# Altium schematic symbol library OOLITEV8.SchLib: 78 symbols
Pins are listed as number, name and electrical type; pins without a type are passive.

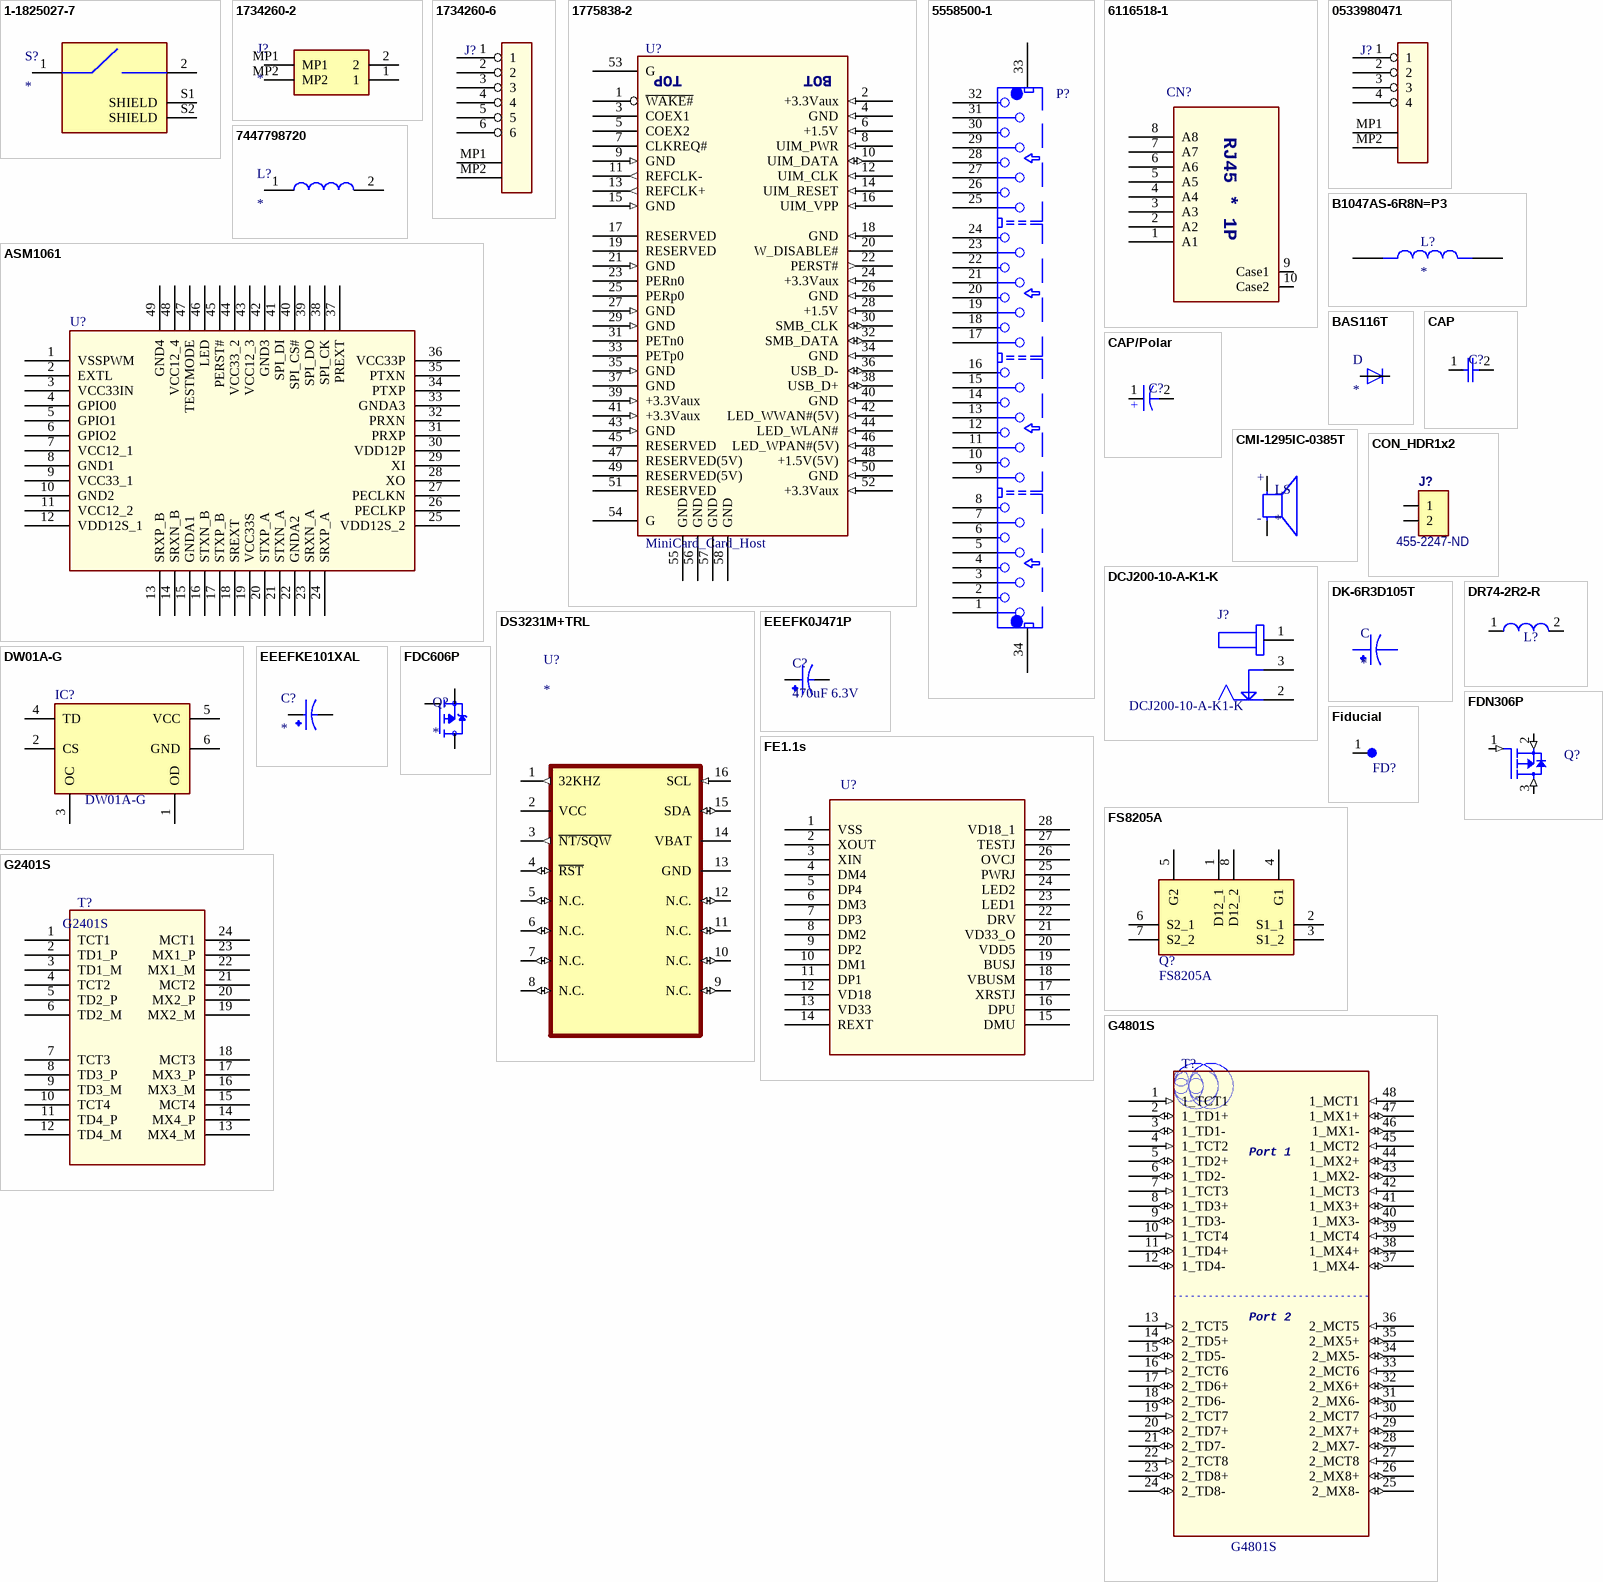
[diagram p0: symbols 1-1825027-7 to G4801S]

## 1-1825027-7
designator S?
Switch; Manufacturer_Name: TE Connectivity; Manufacturer_Part_Number: 1-1825027-7; Datasheet Link: https://www.te.com/commerce/DocumentDelivery/DDEController?Action=srchrtrv&DocNm=1308111-1_SWITCHES_CORE_PROGRAM_CATALOG&DocType=CS&DocLang=English; Height: 7.01mm; Mouser Part Number: 655-1-1825027-7; Mouser Price/Stock: https://www.mouser.co.uk/ProductDetail/TE-Connectivity-PB/1-1825027-7?qs=f77SmbfBTEqvrOH32rsDWQ%3D%3D; Arrow Part Number: 1-1825027-7; Arrow Price/Stock: https://www.arrow.com/en/products/1-1825027-7/te-connectivity
footprint 118250277
pins: 1 COM, 2 NO, S1 SHIELD, S2 SHIELD

## 1734260-2
designator J?
Connector; Manufacturer_Name: TE Connectivity; Manufacturer_Part_Number: 1734260-2; Datasheet Link: https://www.arrow.com/en/products/1734260-2/te-connectivity; Height: 4.95mm; Mouser Part Number: 571-1734260-2; Mouser Price/Stock: https://www.mouser.co.uk/ProductDetail/TE-Connectivity/1734260-2/?qs=Li%2F9gWHD5N4djG6lvxuXsg%3D%3D; Arrow Part Number: 1734260-2; Arrow Price/Stock: https://www.arrow.com/en/products/1734260-2/te-connectivity
footprint 17342602
pins: 1, 2, MP1, MP2

## 1734260-6
designator J?
HPI Series 6 Position 1.25 mm Single Row Male Pin Board to Wire Header; Manufacturer: TE Connectivity; Manufacturer Part Number: 1734260-6; Supplier 1: Arrow Electronics; RoHS: Yes; Category: Connectors; Stock 1: 4000; Pricing 1: 1000=2.17220, 2000=2.00570, 5000=1.90830 (USD); ComponentLink1URL: https://datasheet.ciiva.com/727/eng-cd-1734260-a-727326.pdf?src-supplier=Digi-Key; ComponentLink1Description: https://datasheet.ciiva.com/727/eng-cd-1734260-a-727326.pdf?src-supplier=Digi-Key; ComponentLink2URL: https://datasheet.ciiva.com/727/eng-cd-1734260-a-727431.pdf?src-supplier=Digi-Key; ComponentLink2Description: https://datasheet.ciiva.com/727/eng-cd-1734260-a-727431.pdf?src-supplier=Digi-Key; ComponentLink3URL: https://datasheet.ciiva.com/727/eng-cd-1734260-a-727501.pdf?src-supplier=Digi-Key; ComponentLink3Description: https://datasheet.ciiva.com/727/eng-cd-1734260-a-727501.pdf?src-supplier=Digi-Key; Supplier Part Number 1: 1734260-6
footprint 1734260-6
pins: 1, 2, 3, 4, 5, 6, MP1, MP2

## 1775838-2
designator U?, comment MiniCard_Card_Host
footprint TE_1775838-2
pins: 1 ~{WAKE#} (oc), 2 +3.3Vaux (in), 3 COEX1, 4 GND (in), 5 COEX2, 6 +1.5V (in), 7 CLKREQ# (oc), 8 UIM_PWR (in), 9 GND (in), 10 UIM_DATA (io), 11 REFCLK- (out), 12 UIM_CLK (in), 13 REFCLK+ (out), 14 UIM_RESET (in), 15 GND (in), 16 UIM_VPP (in), 17 RESERVED, 18 GND (in), 19 RESERVED, 20 W_DISABLE#, 21 GND (in), 22 PERST# (out), 23 PERn0, 24 +3.3Vaux (in), 25 PERp0, 26 GND (in), 27 GND (in), 28 +1.5V (in), 29 GND (in), 30 SMB_CLK (io), 31 PETn0, 32 SMB_DATA (io), 33 PETp0, 34 GND (in), 35 GND (in), 36 USB_D- (io), 37 GND (power), 38 USB_D+ (io), 39 +3.3Vaux (in), 40 GND (in), 41 +3.3Vaux (in), 42 LED_WWAN#(5V) (in), 43 GND (in), 44 LED_WLAN# (in), 45 RESERVED, 46 LED_WPAN#(5V) (in), 47 RESERVED(5V), 48 +1.5V(5V) (in), 49 RESERVED(5V), 50 GND (in), 51 RESERVED, 52 +3.3Vaux (in), 53 G, 54 G, 55 GND, 56 GND, 57 GND, 58 GND
text: TOP; BOT

## 5558500-1
designator P?
footprint CONN_ARJ14A-MESA-MU2
pins: 1, 2, 3, 4, 5, 6, 7, 8, 9, 10, 11, 12, 13, 14, 15, 16, 17, 18, 19, 20, 21, 22, 23, 24, 25, 26, 27, 28, 29, 30, 31, 32, 33, 34

## 6116518-1
designator CN?
footprint BEL_SS-6488-NF
pins: 1 A1, 2 A2, 3 A3, 4 A4, 5 A5, 6 A6, 7 A7, 8 A8, 9 Case1, 10 Case2
text: RJ45 * 1P

## 0533980471
designator J?
Conn Shrouded Header (3 Sides) HDR 4 POS 1.25mm Solder ST Top Entry SMD PicoBlade™ T/R; Manufacturer: Molex; Manufacturer Part Number: 53398-0471; Supplier 1: RSComponents; RoHS: Yes; Category: Headers and Wire Housings; Stock 1: 1535; Pricing 1: 5=1.26200, 100=1.10100, 375=0.94800, 1500=0.79200, 3000=0.63100 (USD); Supplier Part Number 1: 6563018
footprint 0533980471
pins: 1, 2, 3, 4, MP1, MP2

## 7447798720
designator L?
Fixed Ind 7.2UH 7.9A 12.8 Mohm; Manufacturer: Wurth Electronics; Manufacturer Part Number: 7447798720; Core Material: Metal,Composite; Saturation Current: 6A; Tolerance: 30%; Shielding: Shielded; Self Resonant Frequency: 31MHz; DC Resistance (DCR): 12.8mR; Test Frequency: 100kHz; Max DC Current: 6.5A; Supplier 1: Newark; RoHS: Yes; Category: Fixed Inductors; Stock 1: 203; Pricing 1: 1=3.34000, 10=3.09000, 25=3.05000, 50=3.02000, 100=2.98000, 250=2.65000 (USD); Mount: Surface Mount; Case/Package: Nonstandard; Min Operating Temperature: -40°C; Max Operating Temperature: 150°C; Package Quantity: 1; Current Rating: 7.9A; Packaging: Tape and Reel; Inductance Tolerance: 30%; Resistor Type: Wirewound; Inductance: 7.2uH; Termination: SMD/SMT; RMS Current (Irms): 7.9A; Series: WE-PDF; Length: 0.402inch; Width: 0.402inch; Height: 6.4mm; Height - Seated (Max): 0.252inch; REACH SVHC: Unknown; RoHS Compliant: Yes; ComponentLink1URL: https://datasheet.ciiva.com/7892/1736564-7892967.pdf?src-supplier=Element14; ComponentLink1Description: https://datasheet.ciiva.com/7892/1736564-7892967.pdf?src-supplier=Element14; ComponentLink2URL: https://datasheet.ciiva.com/6171/530544-6171082.pdf?src-supplier=Farnell; ComponentLink2Description: https://datasheet.ciiva.com/6171/530544-6171082.pdf?src-supplier=Farnell; ComponentLink3URL: https://datasheet.ciiva.com/4954/7447798720-38957-4954724.pdf?src-supplier=Mouser; ComponentLink3Description: https://datasheet.ciiva.com/4954/7447798720-38957-4954724.pdf?src-supplier=Mouser; ComponentLink4URL: https://datasheet.ciiva.com/1060/7447798720-1060960.pdf?src-supplier=Digi-Key; ComponentLink4Description: https://datasheet.ciiva.com/1060/7447798720-1060960.pdf?src-supplier=Digi-Key; ComponentLink5URL: https://datasheet.ciiva.com/1060/7447798720-1060961.pdf?src-supplier=Digi-Key; ComponentLink5Description: https://datasheet.ciiva.com/1060/7447798720-1060961.pdf?src-supplier=Digi-Key; ComponentLink6URL: https://datasheet.ciiva.com/1060/7447798720-1060962.pdf?src-supplier=Digi-Key; ComponentLink6Description: https://datasheet.ciiva.com/1060/7447798720-1060962.pdf?src-supplier=Digi-Key; Supplier Part Number 1: 78R5736
footprint CDRH103RNP6R8NCB
pins: 1, 2

## ASM1061
designator U?
footprint QFN-48
pins: 1 VSSPWM, 2 EXTL, 3 VCC33IN, 4 GPIO0, 5 GPIO1, 6 GPIO2, 7 VCC12_1, 8 GND1, 9 VCC33_1, 10 GND2, 11 VCC12_2, 12 VDD12S_1, 13 SRXP_B, 14 SRXN_B, 15 GNDA1, 16 STXN_B, 17 STXP_B, 18 SREXT, 19 VCC33S, 20 STXP_A, 21 STXN_A, 22 GNDA2, 23 SRXN_A, 24 SRXP_A, 25 VDD12S_2, 26 PECLKP, 27 PECLKN, 28 XO, 29 XI, 30 VDD12P, 31 PRXP, 32 PRXN, 33 GNDA3, 34 PTXP, 35 PTXN, 36 VCC33P, 37 PREXT, 38 SPI_CK, 39 SPI_DO, 40 SPI_CS#, 41 SPI_DI, 42 GND3, 43 VCC12_3, 44 VCC33_2, 45 PERST#, 46 LED, 47 TESTMODE, 48 VCC12_4, 49 GND4

## B1047AS-6R8N=P3
designator L?
Inductor Power Shielded Wirewound 220uH 20% 100KHz Ferrite 470mA 1.1Ohm DCR 2929 T/R; MP: B1047AS-6R8N=P3; Package: None; Price: None; Value: *; Availability: Unavailable
footprint IND_B1047AS-6R8N=P3
pins: 1, 2

## BAS116T
designator D
Diode Standard 75V 200mA Surface Mount SC-75, SOT-416; MP: BAS116; MF: NXP Semiconductors; Package: SOT-23-3 NXP Semiconductors; Availability: Bad; SnapEDA_Link: https://www.snapeda.com/parts/BAS116/NXP%20Semiconductors/view-part/188045/?ref=snap; Value: *; Price: None
footprint SOT416
pins: 1 A, 3 K

## CAP
designator C?
footprint 0603-C (Capacitor 0603 Nominal Density)
footprint 0805-C (Capacitor 0805 Nominal Density)
footprint 1206-C (Capacitor 1206 Nominal Density)
footprint 0402-C
footprint 1210-C
pins: 1, 2

## CAP/Polar
designator C?
footprint RADIAL-2
pins: 1, 2
text: +

## CMI-1295IC-0385T
designator LS
12 mm, 3 Vdc, 85 dB, Through Hole, Driving Circuit, Magnetic Audio Indicator Buzzer; MF: CUI Devices; MP: CMI-1295IC-0385T; Price: None; Value: *; Package: Package; Availability: Unavailable; SnapEDA_Link: https://www.snapeda.com/parts/CMI-1295IC-0385T/CUI%20Devices/view-part/4413411/?ref=snap
footprint CUI_CMI-1295IC-0385T
pins: N, P
text: +; -

## CON_HDR1x2
designator J?, comment 455-2247-ND
ComponentLink1URL: https://www.jst-mfg.com/product/pdf/eng/eXH.pdf; ComponentLink1Description: Datasheet
footprint CON_HDR1x2 (Connector 2-Way 2.50mm Pitch Right Angle Shrouded JST S2B-XH-A)
pins: 1, 2

## DCJ200-10-A-K1-K
designator J?
Power Barrel Connector Jack 2.05mm ID (0.081"), 5.50mm OD (0.217") Through Hole, Right Angle; MF: Global Connector Technology; Package: None; Availability: Unavailable; MP: DCJ200-10-A-K1-K; Value: *; SnapEDA_Link: https://www.snapeda.com/parts/DCJ200-10-A-K1-K/Global%20Connector%20Technology/view-part/641259/?ref=snap; Price: None
footprint DC_JACK
pins: 1, 2, 3

## DK-6R3D105T
designator C
1F (EDLC) Supercapacitor 6.3V Radial, Can 30Ohm 1000 Hrs @ 70Â°C; MP: DK-6R3D105T; MF: Elna; Package: Radial Can  Elna; Price: None; Value: *; Availability: Warning; SnapEDA_Link: https://www.snapeda.com/parts/DK-6R3D105T/Elna/view-part/810793/?ref=snap; Mouser-Purchase-URL: https://snapeda.com/shop?store=Mouser&id=810793
footprint CAPPRD500W80D2150H950
pins: 1, 2

## DR74-2R2-R
designator L?
footprint INDM7676X435N
pins: 1, 2

## DS3231M+TRL
designator U?
MP: DS3231M+TRL; Package: None; Price: None; Value: *; Availability: Unavailable
footprint SOIC127P1032X265-16N
pins: 1 32KHZ (out), 2 VCC (power), 3 ~{NT/SQW} (out), 4 ~{RST} (io), 5 N.C. (io), 6 N.C. (io), 7 N.C. (io), 8 N.C. (io), 9 N.C. (io), 10 N.C. (io), 11 N.C. (io), 12 N.C. (io), 13 GND (power), 14 VBAT (power), 15 SDA (io), 16 SCL (in)

## DW01A-G
designator IC?
Integrated Circuit; Manufacturer_Name: Fortune Semiconductor Corporation; Datasheet Link: http://acoptex.com/uploads/DW01A.pdf; Height: 1.35mm; Manufacturer_Part_Number: DW01A-G
footprint SOT95P280X135-6N
pins: 1 OD, 2 CS, 3 OC, 4 TD, 5 VCC, 6 GND

## EEEFK0J471P
designator C?, comment 470uF 6.3V
footprint CAP_EEEFK0J471P
pins: 1, 2

## EEEFKE101XAL
designator C?
CAP ALUM 100UF 20% 25V SMD; MF: Panasonic; MP: EEEFKE101XAL; Check_prices: https://www.snapeda.com/parts/EEEFKE101XAL/Panasonic/view-part/5785135/?ref=eda; Package: RADIAL-2 Panasonic; Value: *; Digi-Key_Part_Number: 10-EEE-FKE101XALCT-ND; SnapEDA_Link: https://www.snapeda.com/parts/EEEFKE101XAL/Panasonic/view-part/5785135/?ref=snap
footprint CAP_EEEFKE101XAL
pins: 1, 2

## FDC606P
designator Q?
P-Channel 12V 6A (Ta) 1.6W (Ta) Surface Mount SuperSOTâ„¢-6; MF: ON Semiconductor; MP: FDC606P; Price: None; Purchase-URL: https://pricing.snapeda.com/search/part/FDC606P/?ref=eda; Value: *; Availability: Good; Check_prices: https://www.snapeda.com/parts/FDC606P/ON%20Semiconductor/view-part/2501971/?ref=eda; SnapEDA_Link: https://www.snapeda.com/parts/FDC606P/ON%20Semiconductor/view-part/2501971/?ref=snap; Package: TSOT-23-6 ON Semiconductor
footprint SUPERSOT-6
pins: 1 D, 2 D, 3 G, 4 S, 5 D, 6 D

## FDN306P
designator Q?
footprint SSOT-3
pins: 1 GATE (in), 2 SOURCE (in), 3 DRAIN (in)

## FE1.1s
designator U?
footprint SSOP28
pins: 1 VSS, 2 XOUT, 3 XIN, 4 DM4, 5 DP4, 6 DM3, 7 DP3, 8 DM2, 9 DP2, 10 DM1, 11 DP1, 12 VD18, 13 VD33, 14 REXT, 15 DMU, 16 DPU, 17 XRSTJ, 18 VBUSM, 19 BUSJ, 20 VDD5, 21 VD33_O, 22 DRV, 23 LED1, 24 LED2, 25 PWRJ, 26 OVCJ, 27 TESTJ, 28 VD18_1

## Fiducial
designator FD?  (value not drawn)
footprint FD
pins: 1

## FS8205A
designator Q?
Transistor; Manufacturer_Name: SII Semiconductor; Datasheet Link: http://www.ic-fortune.com/upload/Download/FS8205A-DS-12_EN.pdf; Height: 1.2mm; Manufacturer_Part_Number: FS8205A
footprint SOP65P640X120-8N
pins: 1 D12_1, 2 S1_1, 3 S1_2, 4 G1, 5 G2, 6 S2_1, 7 S2_2, 8 D12_2

## G2401S
designator T?
Audio Transformers / Signal Transformers 1000BaseT SMD NonPoE 350uH .65Ohms 1-Por
footprint SOP127P1600X572-24N (SOP, 24-Leads, Body 17.50x12.80mm, Pitch 1.27mm, IPC Medium Density)
pins: 1 TCT1, 2 TD1_P, 3 TD1_M, 4 TCT2, 5 TD2_P, 6 TD2_M, 7 TCT3, 8 TD3_P, 9 TD3_M, 10 TCT4, 11 TD4_P, 12 TD4_M, 13 MX4_M, 14 MX4_P, 15 MCT4, 16 MX3_M, 17 MX3_P, 18 MCT3, 19 MX2_M, 20 MX2_P, 21 MCT2, 22 MX1_M, 23 MX1_P, 24 MCT1

## G4801S
designator T?
Audio Transformers / Signal Transformers GIGABIT ISO MOD SMD 48P 2-Port w/Choke
footprint NV6 (SOP, 48-Leads, Body 27.94x12.19mm, Pitch 1.02mm, IPC Medium Density)
pins: 1 1_TCT1 (in), 2 1_TD1+ (io), 3 1_TD1- (io), 4 1_TCT2 (in), 5 1_TD2+ (io), 6 1_TD2- (io), 7 1_TCT3 (in), 8 1_TD3+ (io), 9 1_TD3- (io), 10 1_TCT4 (in), 11 1_TD4+ (io), 12 1_TD4- (io), 13 2_TCT5 (in), 14 2_TD5+ (io), 15 2_TD5- (io), 16 2_TCT6 (in), 17 2_TD6+ (io), 18 2_TD6- (io), 19 2_TCT7 (in), 20 2_TD7+ (io), 21 2_TD7- (io), 22 2_TCT8 (in), 23 2_TD8+ (io), 24 2_TD8- (io), 25 2_MX8- (io), 26 2_MX8+ (io), 27 2_MCT8 (in), 28 2_MX7- (io), 29 2_MX7+ (io), 30 2_MCT7 (in), 31 2_MX6- (io), 32 2_MX6+ (io), 33 2_MCT6 (in), 34 2_MX5- (io), 35 2_MX5+ (io), 36 2_MCT5 (in), 37 1_MX4- (io), 38 1_MX4+ (io), 39 1_MCT4 (in), 40 1_MX3- (io), 41 1_MX3+ (io), 42 1_MCT3 (in), 43 1_MX2- (io), 44 1_MX2+ (io), 45 1_MCT2 (in), 46 1_MX1- (io), 47 1_MX1+ (io), 48 1_MCT1 (in)
text: Port 1; Port 2

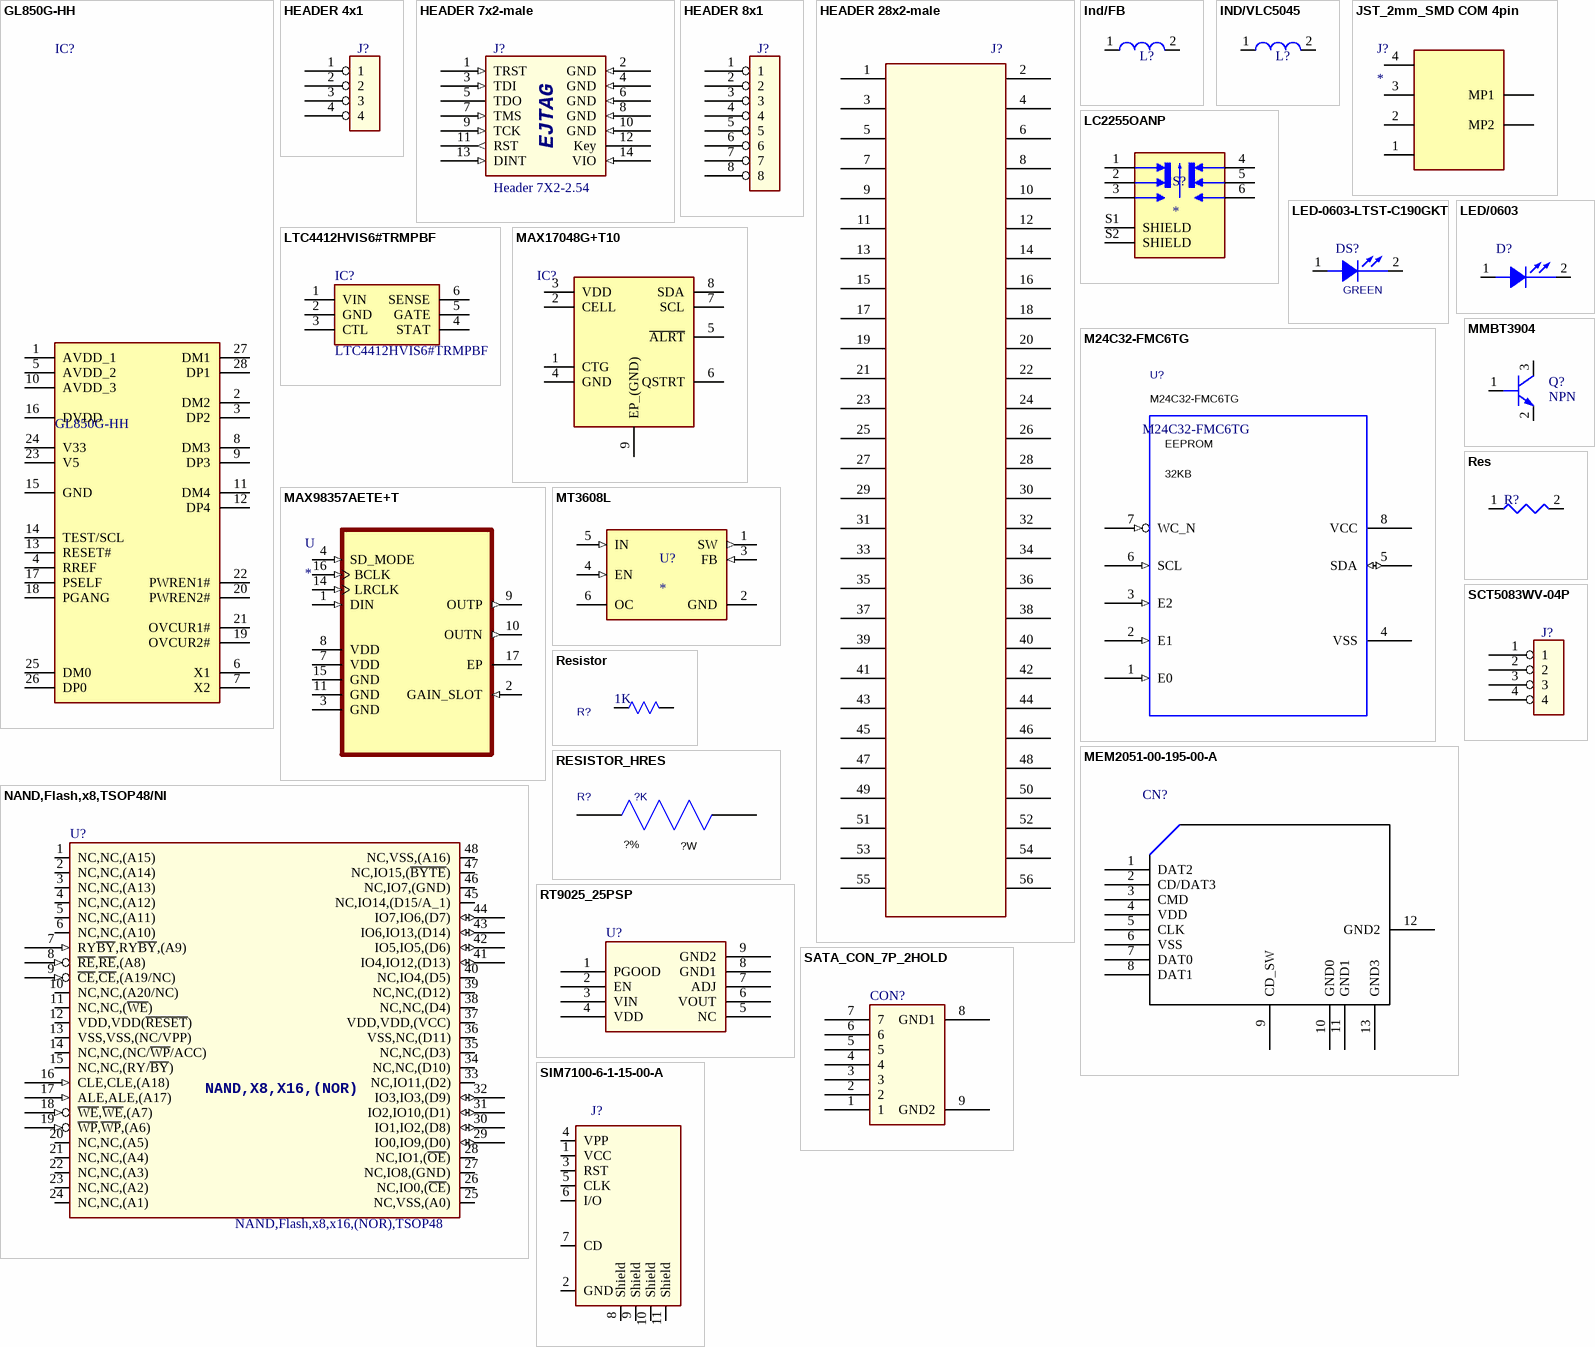
[diagram p1: symbols GL850G-HH to SIM7100-6-1-15-00-A]

## GL850G-HH
designator IC?
Integrated Circuit; Manufacturer_Name: Genesys; Datasheet Link: https://www.kean.com.au/oshw/WR703N/GL850G%20USB%20Hub%201.07.pdf; Height: 2mm; Manufacturer_Part_Number: GL850G-HH
footprint SOP65P780X200-28N
pins: 1 AVDD_1, 2 DM2, 3 DP2, 4 RREF, 5 AVDD_2, 6 X1, 7 X2, 8 DM3, 9 DP3, 10 AVDD_3, 11 DM4, 12 DP4, 13 RESET#, 14 TEST/SCL, 15 GND, 16 DVDD, 17 PSELF, 18 PGANG, 19 OVCUR2#, 20 PWREN2#, 21 OVCUR1#, 22 PWREN1#, 23 V5, 24 V33, 25 DM0, 26 DP0, 27 DM1, 28 DP1

## HEADER 4x1
designator J?
footprint CONN_4X1
pins: 1, 2, 3, 4

## HEADER 7x2-male
designator J?, comment Header 7X2-2.54
footprint CONN_7X2
pins: 1 TRST (in), 2 GND (in), 3 TDI (in), 4 GND (in), 5 TDO (hiz), 6 GND (in), 7 TMS (in), 8 GND (in), 9 TCK (in), 10 GND (in), 11 RST (out), 12 Key, 13 DINT (in), 14 VIO (in)
text: EJTAG

## HEADER 8x1
designator J?
footprint CONN_8x1
pins: 1, 2, 3, 4, 5, 6, 7, 8

## HEADER 28x2-male
designator J?
footprint CONN_28X2
pins: 1, 2, 3, 4, 5, 6, 7, 8, 9, 10, 11, 12, 13, 14, 15, 16, 17, 18, 19, 20, 21, 22, 23, 24, 25, 26, 27, 28, 29, 30, 31, 32, 33, 34, 35, 36, 37, 38, 39, 40, 41, 42, 43, 44, 45, 46, 47, 48, 49, 50, 51, 52, 53, 54, 55, 56

## Ind/FB
designator L?
footprint 0402-L
footprint 0603-L
footprint 0805-L
footprint 1206-L
pins: 1, 2

## IND/VLC5045
designator L?
footprint VLC5045
pins: 1, 2

## JST_2mm_SMD COM 4pin
designator J?
620104131822 / WR-WTB 2.00mm SMT Male; Package: None; Price: None; Value: *; MP: 620104131822; Availability: Unavailable
footprint 620104131822
pins: 1 4, 2 3, 3 2, 4 1, MP1, MP2

## LC2255OANP
designator S?
Pushbutton Switch DPDT Standard Through Hole, Right Angle; MP: LC2255OANP; MF: E-Switch; Package: None; Purchase-URL: https://pricing.snapeda.com/search/part/LC2251EENP/?ref=eda; Price: None; SnapEDA_Link: LC2255OANP; Check_prices: LC2255OANP; Value: *; Availability: Good
footprint SWITCH
footprint C231737
pins: 1, 2, 3, 4, 5, 6, S1 SHIELD, S2 SHIELD

## LED-0603-LTST-C190GKT
designator DS?, comment LTST-C190GKT  (value not drawn)
ATHEROS KEY: 127-00001-000
footprint LED_0603
pins: 1 ANODE, 2 CATHODE
text: GREEN

## LED/0603
designator D?
footprint LED_0603
pins: 1 ANODE, 2 CATHODE

## LTC4412HVIS6#TRMPBF
designator IC?
Integrated Circuit; Manufacturer_Name: Linear Technology; Datasheet Link: https://datasheet.datasheetarchive.com/originals/dk/DKDS-14/267243.pdf; Height: 1mm; Manufacturer_Part_Number: LTC4412HVIS6#TRMPBF; Mouser Part Number: 584-C4412HVIS6TRMPBF; Mouser Price/Stock: https://www.mouser.co.uk/ProductDetail/Analog-Devices-Linear-Technology/LTC4412HVIS6TRMPBF?qs=hVkxg5c3xu%2F0qD9zc%2Fd4vw%3D%3D; Arrow Part Number: LTC4412HVIS6#TRMPBF; Arrow Price/Stock: https://www.arrow.com/en/products/ltc4412hvis6trmpbf/linear-technology
footprint SOT95P280X100-6N
pins: 1 VIN, 2 GND, 3 CTL, 4 STAT, 5 GATE, 6 SENSE

## M24C32-FMC6TG
designator U?  BLOCKID1: 32KB  BLOCKID: EEPROM
PART_NUMBER: MCN_NO; SYMNAME: EEPROM_9PIN_1P1G1SLG_V1; PART_ID: M24C32-FMC6TG
footprint UFDFPN8-DFN8
pins: 1 E0 (in), 2 E1 (in), 3 E2 (in), 4 VSS (power), 5 SDA (io), 6 SCL (in), 7 WC_N (in), 8 VCC (power)

## MAX17048G+T10
designator IC?  (value not drawn)
Integrated Circuit; Manufacturer_Name: Maxim Integrated; Manufacturer_Part_Number: MAX17048G+T10; Datasheet Link: https://datasheets.maximintegrated.com/en/ds/MAX17048-MAX17049.pdf; Height: 0.8mm; Mouser Part Number: 700-MAX17048G+T10; Mouser Price/Stock: https://www.mouser.co.uk/ProductDetail/Maxim-Integrated/MAX17048G%2bT10?qs=D7PJwyCwLAoGnnn8jEPRBQ%3D%3D; Arrow Part Number: MAX17048G+T10; Arrow Price/Stock: https://www.arrow.com/en/products/max17048gt10/maxim-integrated?region=nac
footprint SON50P200X200X80-9N-D
pins: 1 CTG, 2 CELL, 3 VDD, 4 GND, 5 ~{ALRT}, 6 QSTRT, 7 SCL, 8 SDA, 9 EP_(GND)

## MAX98357AETE+T
designator U
Amplifier IC 1-Channel _Mono_ Class D 16-TQFN _3x3_; MP: MAX98357AETE+T; MF: Maxim Integrated; Availability: Unavailable; SnapEDA_Link: https://www.snapeda.com/parts/MAX98357AETE%2BT/Maxim%20Integrated/view-part/48842/?ref=snap; Package: TQFN-16 Maxim; Price: None; Value: *
footprint QFN50P300X300X80-17N
pins: 1 DIN (in), 2 GAIN_SLOT (in), 3 GND (power), 4 SD_MODE (in), 7 VDD (power), 8 VDD (power), 9 OUTP (out), 10 OUTN (out), 11 GND (power), 14 LRCLK (in), 15 GND (power), 16 BCLK (in), 17 EP (power)

## MEM2051-00-195-00-A
designator CN?
footprint GCT_MEM2051-00-195-00-A_REVC
pins: 1 DAT2, 2 CD/DAT3, 3 CMD, 4 VDD (power), 5 CLK, 6 VSS (power), 7 DAT0, 8 DAT1, 9 CD_SW, 10 GND0, 11 GND1, 12 GND2, 13 GND3

## MMBT3904
designator Q?, comment NPN
footprint SOT-23-3
pins: 1 B, 2 E, 3 C

## MT3608L
designator U?
High Efficiency 1.2MHz2A Step Up Converter; MF: Aerosemi Technology Co., Ltd; MP: MT3608; Package: Package Analog Devices; Availability: Unavailable; Value: *; SnapEDA_Link: https://www.snapeda.com/parts/MT3608/Aerosemi%20Technology%20Co.%2C%20Ltd/view-part/3218014/?ref=snap; Price: None
footprint SOT95P280X145-6N
pins: 1 SW (out), 2 GND (power), 3 FB (in), 4 EN (in), 5 IN (in), 6 OC

## NAND,Flash,x8,TSOP48/NI
designator U?, comment NAND,Flash,x8,x16,(NOR),TSOP48
P/N: 11-501-132880
footprint TSOP-48
pins: 1 NC,NC,(A15), 2 NC,NC,(A14), 3 NC,NC,(A13), 4 NC,NC,(A12), 5 NC,NC,(A11), 6 NC,NC,(A10), 7 RY~{BY},RY~{BY},(A9) (in), 8 ~{RE},~{RE},(A8) (in), 9 ~{CE},~{CE},(A19/NC) (in), 10 NC,NC,(A20/NC), 11 NC,NC,(~{WE}), 12 VDD,VDD(~{RESET}) (power), 13 VSS,VSS,(NC/VPP) (power), 14 NC,NC,(NC/~{WP}/ACC), 15 NC,NC,(RY/~{BY}), 16 CLE,CLE,(A18) (in), 17 ALE,ALE,(A17) (in), 18 ~{WE},~{WE},(A7) (in), 19 ~{WP},~{WP},(A6) (in), 20 NC,NC,(A5), 21 NC,NC,(A4), 22 NC,NC,(A3), 23 NC,NC,(A2), 24 NC,NC,(A1), 25 NC,VSS,(A0), 26 NC,IO0,(~{CE}), 27 NC,IO8,(GND), 28 NC,IO1,(~{OE}), 29 IO0,IO9,(D0) (io), 30 IO1,IO2,(D8) (io), 31 IO2,IO10,(D1) (io), 32 IO3,IO3,(D9) (io), 33 NC,IO11,(D2), 34 NC,NC,(D10), 35 NC,NC,(D3), 36 VSS,NC,(D11) (power), 37 VDD,VDD,(VCC) (power), 38 NC,NC,(D4), 39 NC,NC,(D12), 40 NC,IO4,(D5), 41 IO4,IO12,(D13) (io), 42 IO5,IO5,(D6) (io), 43 IO6,IO13,(D14) (io), 44 IO7,IO6,(D7) (io), 45 NC,IO14,(D15/A_1), 46 NC,IO7,(GND), 47 NC,IO15,(~{BYTE}), 48 NC,VSS,(A16)
text: NAND,X8,X16,(NOR)

## Res
designator R?
footprint 0603-R (Resistor 0603 Medium Density)
footprint 0805-R (Resistor 0805 Medium Density)
footprint 1206-R (Resistor 1206 Medium Density)
footprint 1210-R (Resistor 1210 Medium Density)
footprint 2010-R (Resistor 2010 Medium Density)
footprint 0402-R
pins: 1, 2

## Resistor
designator R?, comment 1K
PARTS: 1; LEVEL: STD; PKG_TYPE: 2; DEVICE: R; PINSWAP: (A,B); OriginalSymbolOrigin: (20,30)
footprint 0603-R (Resistor 0603 Medium Density)
footprint 0805-R (Resistor 0805 Medium Density)
footprint 1206-R (Resistor 1206 Medium Density)
footprint 1210-R (Resistor 1210 Medium Density)
footprint 2010-R (Resistor 2010 Medium Density)
pins: 1 A, 2 B

## RESISTOR_HRES
designator R?, comment ?K  TOLERANCE: ?%  POWER: ?W
PART_NUMBER: MCN_NO; PART_ID: MFG_NO; SYMNAME: resistor; PACK_TYPE: ?
footprint 0603-R (Resistor 0603 Medium Density)
footprint 0805-R (Resistor 0805 Medium Density)
footprint 1206-R (Resistor 1206 Medium Density)
footprint 1210-R (Resistor 1210 Medium Density)
footprint 2010-R (Resistor 2010 Medium Density)
pins: 1 POS, 2 NEG

## RT9025_25PSP
designator U?
footprint SOP-8
pins: 1 PGOOD, 2 EN, 3 VIN, 4 VDD, 5 NC, 6 VOUT, 7 ADJ, 8 GND1, 9 GND2

## SATA_CON_7P_2HOLD
designator CON?
footprint 0678008025
pins: 1, 2, 3, 4, 5, 6, 7, 8 GND1, 9 GND2

## SCT5083WV-04P
designator J?
https://www.sconect.com/wp-content/uploads/2017/01/SCT5083WV-04P.pdf?x78740
footprint SATA_CONNECTOR
pins: 1, 2, 3, 4

## SIM7100-6-1-15-00-A
designator J?
footprint GCT_SIM7100-6-1-15-00-A_REVC
pins: 1 VCC, 2 GND, 3 RST, 4 VPP, 5 CLK, 6 I/O, 7 CD, 8 Shield, 9 Shield, 10 Shield, 11 Shield

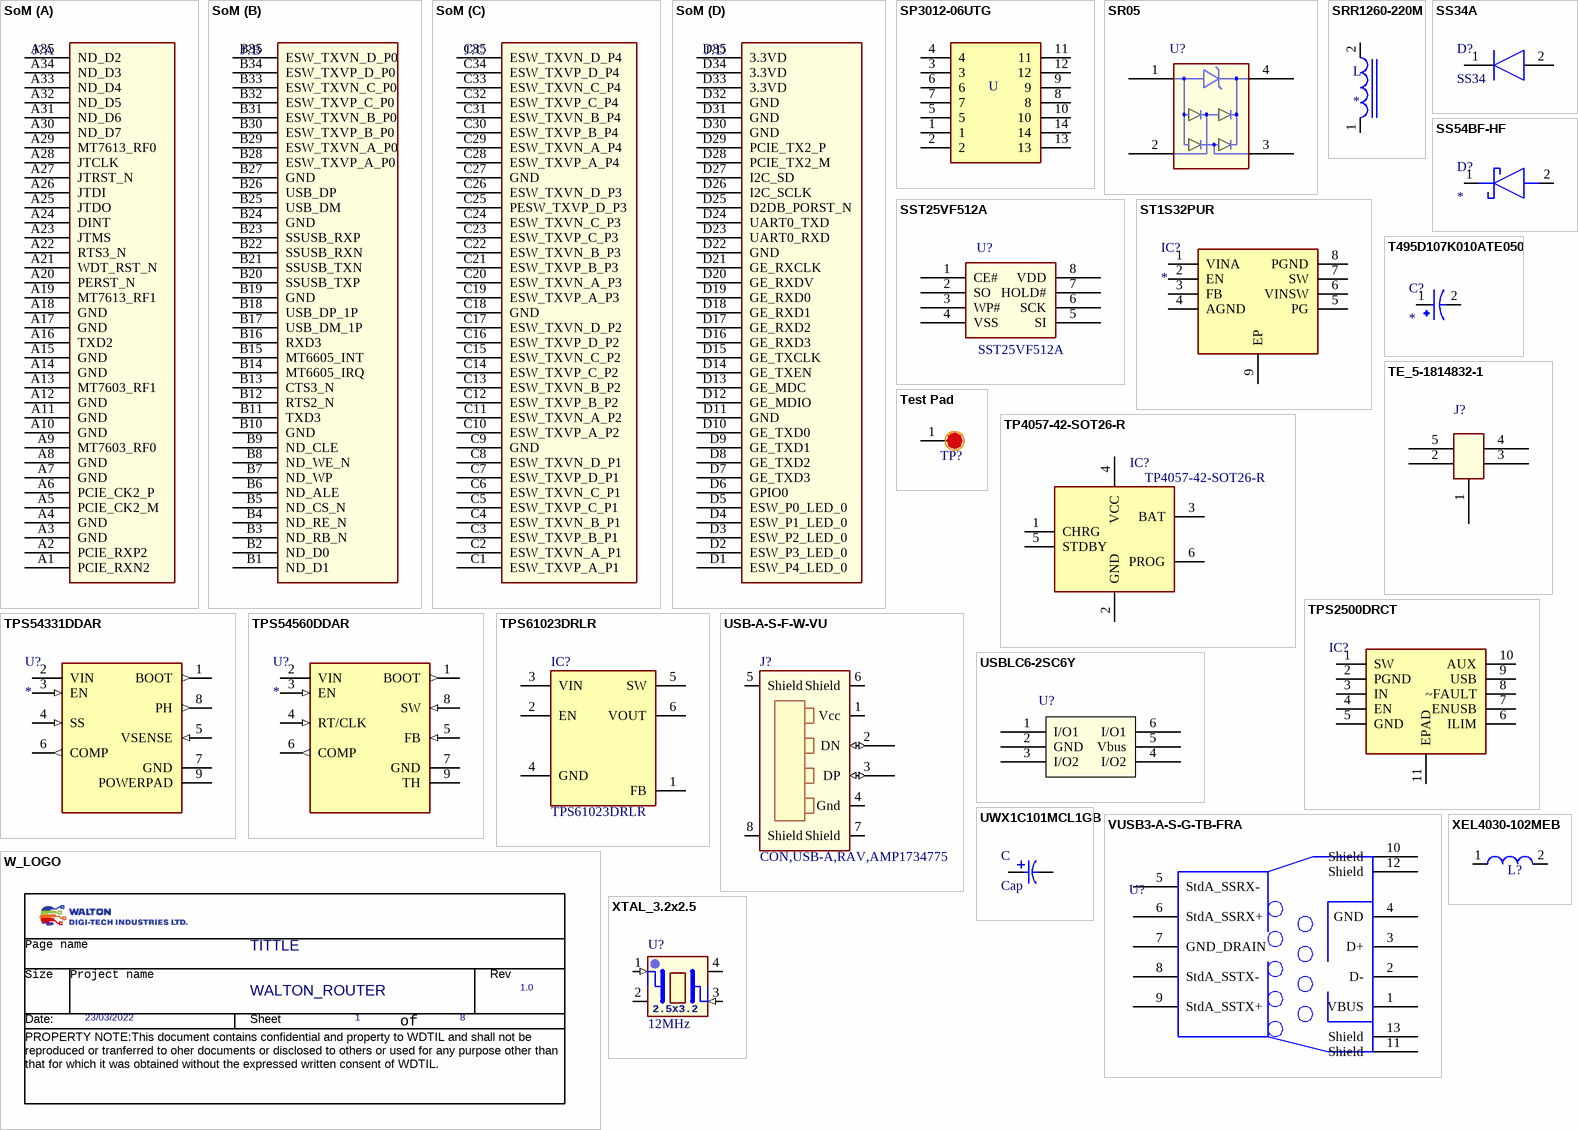
[diagram p2: symbols SoM to XTAL_3.2x2.5]

## SoM
designator J?
footprint SoM (QFP, 140-Leads, Body 50.00x50.00mm, Pitch 1.27mm, IPC Medium Density)
part A pins: A1 PCIE_RXN2, A2 PCIE_RXP2, A3 GND, A4 GND, A5 PCIE_CK2_M, A6 PCIE_CK2_P, A7 GND, A8 GND, A9 MT7603_RF0, A10 GND, A11 GND, A12 GND, A13 MT7603_RF1, A14 GND, A15 GND, A16 TXD2, A17 GND, A18 GND, A19 MT7613_RF1, A20 PERST_N, A21 WDT_RST_N, A22 RTS3_N, A23 JTMS, A24 DINT, A25 JTDO, A26 JTDI, A27 JTRST_N, A28 JTCLK, A29 MT7613_RF0, A30 ND_D7, A31 ND_D6, A32 ND_D5, A33 ND_D4, A34 ND_D3, A35 ND_D2
part B pins: B1 ND_D1, B2 ND_D0, B3 ND_RB_N, B4 ND_RE_N, B5 ND_CS_N, B6 ND_ALE, B7 ND_WP, B8 ND_WE_N, B9 ND_CLE, B10 GND, B11 TXD3, B12 RTS2_N, B13 CTS3_N, B14 MT6605_IRQ, B15 MT6605_INT, B16 RXD3, B17 USB_DM_1P, B18 USB_DP_1P, B19 GND, B20 SSUSB_TXP, B21 SSUSB_TXN, B22 SSUSB_RXN, B23 SSUSB_RXP, B24 GND, B25 USB_DM, B26 USB_DP, B27 GND, B28 ESW_TXVP_A_P0, B29 ESW_TXVN_A_P0, B30 ESW_TXVP_B_P0, B31 ESW_TXVN_B_P0, B32 ESW_TXVP_C_P0, B33 ESW_TXVN_C_P0, B34 ESW_TXVP_D_P0, B35 ESW_TXVN_D_P0
part C pins: C1 ESW_TXVP_A_P1, C2 ESW_TXVN_A_P1, C3 ESW_TXVP_B_P1, C4 ESW_TXVN_B_P1, C5 ESW_TXVP_C_P1, C6 ESW_TXVN_C_P1, C7 ESW_TXVP_D_P1, C8 ESW_TXVN_D_P1, C9 GND, C10 ESW_TXVP_A_P2, C11 ESW_TXVN_A_P2, C12 ESW_TXVP_B_P2, C13 ESW_TXVN_B_P2, C14 ESW_TXVP_C_P2, C15 ESW_TXVN_C_P2, C16 ESW_TXVP_D_P2, C17 ESW_TXVN_D_P2, C18 GND, C19 ESW_TXVP_A_P3, C20 ESW_TXVN_A_P3, C21 ESW_TXVP_B_P3, C22 ESW_TXVN_B_P3, C23 ESW_TXVP_C_P3, C24 ESW_TXVN_C_P3, C25 PESW_TXVP_D_P3, C26 ESW_TXVN_D_P3, C27 GND, C28 ESW_TXVP_A_P4, C29 ESW_TXVN_A_P4, C30 ESW_TXVP_B_P4, C31 ESW_TXVN_B_P4, C32 ESW_TXVP_C_P4, C33 ESW_TXVN_C_P4, C34 ESW_TXVP_D_P4, C35 ESW_TXVN_D_P4
part D pins: D1 ESW_P4_LED_0, D2 ESW_P3_LED_0, D3 ESW_P2_LED_0, D4 ESW_P1_LED_0, D5 ESW_P0_LED_0, D6 GPIO0, D7 GE_TXD3, D8 GE_TXD2, D9 GE_TXD1, D10 GE_TXD0, D11 GND, D12 GE_MDIO, D13 GE_MDC, D14 GE_TXEN, D15 GE_TXCLK, D16 GE_RXD3, D17 GE_RXD2, D18 GE_RXD1, D19 GE_RXD0, D20 GE_RXDV, D21 GE_RXCLK, D22 GND, D23 UART0_RXD, D24 UART0_TXD, D25 D2DB_PORST_N, D26 I2C_SCLK, D27 I2C_SD, D28 PCIE_TX2_M, D29 PCIE_TX2_P, D30 GND, D31 GND, D32 GND, D33 3.3VD, D34 3.3VD, D35 3.3VD

## SP3012-06UTG
designator U  (value not drawn)
7V _Typ_ Clamp 4A _8/20Âµs_ Ipp Tvs Diode Surface Mount 14-UDFN _3.5x1.35_; MP: SP3012-06UTG; MF: Littelfuse Inc.; Price: None; Availability: Unavailable; Package: UDFN-14 Littelfuse; SnapEDA_Link: https://www.snapeda.com/parts/SP3012-06UTG/Littelfuse%20Inc./view-part/481186/?ref=snap; Value: *
footprint SON50P350X135X55-14N
pins: 1, 2, 3, 4, 5, 6, 7, 8, 9, 10, 11, 12, 13, 14

## SR05
designator U?
footprint SOT143
pins: 1 PIN1, 2 PIN2, 3 PIN3, 4 PIN4

## SRR1260-220M
designator L
22ÂµH Shielded Wirewound Inductor 4A 43mOhm Max Nonstandard; MF: Bourns - J.W. Miller; MP: SRR1260-220M; Package: Nonstandard Bourns - J.W. Miller; Price: None; Value: *; Availability: Unavailable; SnapEDA_Link: https://www.snapeda.com/parts/SRR1260-220M/Bourns%20-%20J.W.%20Miller/view-part/50176/?ref=snap
footprint INDP125125X600N
pins: 1, 2

## SS34A
designator D?, comment SS34
Diode; Manufacturer_Name: HY Electronic Corp; Manufacturer_Part_Number: SS34A; Datasheet Link: https://datasheet.datasheetarchive.com/originals/distributors/Datasheets-3/DSA-43252.pdf; Height: 2.62mm
footprint DIOM5026X262N
pins: 1 K, 2 A

## SS54BF-HF
designator D?
Schottky Diode; Manufacturer_Name: Comchip Technology; Manufacturer_Part_Number: SS54BF-HF; Datasheet Link: https://www.mouser.co.uk/datasheet/2/80/20190807092834-2504956.pdf; Height: 1.3mm; Mouser Part Number: 750-SS54BF-HF; Mouser Price/Stock: https://www.mouser.co.uk/ProductDetail/Comchip-Technology/SS54BF-HF?qs=GBLSl2AkirsPcLFwlU2Ctg%3D%3D; Arrow Part Number: SS54BF-HF; Arrow Price/Stock: https://www.arrow.com/en/products/ss54bf-hf/comchip-technology?region=nac
footprint SODFL5336X130N (Footprint not found)
pins: 1 K, 2 A

## SST25VF512A
designator U?
512 Kbit SPI Serial Flash
footprint SO-8
pins: 1 CE#, 2 SO, 3 WP#, 4 VSS, 5 SI, 6 SCK, 7 HOLD#, 8 VDD

## ST1S32PUR
designator IC?
Integrated Circuit; Manufacturer_Name: STMicroelectronics; Manufacturer_Part_Number: ST1S32PUR; Datasheet Link: http://www.st.com/web/en/resource/technical/document/datasheet/DM00056321.pdf; Height: 1mm; Mouser Part Number: 511-ST1S32PUR; Mouser Price/Stock: https://www.mouser.co.uk/ProductDetail/STMicroelectronics/ST1S32PUR?qs=gNDSiZmRJS9JfBN%2Fr%252BmKGQ%3D%3D; Arrow Part Number: ST1S32PUR; Arrow Price/Stock: https://www.arrow.com/en/products/st1s32pur/stmicroelectronics?region=europe
footprint SON80P400X400X100-9N-D (Footprint not found)
pins: 1 VINA, 2 EN, 3 FB, 4 AGND, 5 PG, 6 VINSW, 7 SW, 8 PGND, 9 EP

## T495D107K010ATE050
designator C?
Cap Tant Solid 100uF 10V D CASE 10% (7.3 X 4.3 X 2.8mm) SMD 7343-31 0.05 Ohm 125°C T/R; Manufacturer: KEMET; Manufacturer Part Number: T495D107K010ATE050; ESR (Equivalent Series Resistance): 50mR; Polarity: Polar; Life (Hours): 2000Hour; Dissipation Factor: 8%; Supplier 1: Newark; RoHS: Yes; Category: Tantalum Capacitors; Stock 1: 224; Pricing 1: 1=2.46000, 10=2.00000, 25=1.84000, 50=1.69000, 100=1.53000 (USD); Mount: Surface Mount; Case/Package: 2917; Number of Pins: 2; Case Code (Imperial): 2917; Case Code (Metric): 7343; Min Operating Temperature: -55°C; Max Operating Temperature: 125°C; Packaging: Tape and Reel; Capacitance: 100uF; Tolerance: 10%; Voltage Rating: 10V; Package Quantity: 500; Termination: SMD/SMT; Voltage Rating (DC): 10V; Features: General Purpose; Series: T495; Construction: Flat; Length: 7.3mm; Width: 4.3mm; Height: 3.1mm; Height - Seated (Max): 0.122inch; Depth: 4.3mm; Radiation Hardening: No; REACH SVHC: No SVHC; RoHS Compliant: Yes; ComponentLink1URL: http://www.farnell.com/datasheets/2319914.pdf?src-supplier=Farnell; ComponentLink1Description: http://www.farnell.com/datasheets/2319914.pdf?src-supplier=Farnell; ComponentLink2URL: http://www.mouser.com/ds/2/212/KEM_T2071_T495_COTS-1104607.pdf?src-supplier=Mouser; ComponentLink2Description: http://www.mouser.com/ds/2/212/KEM_T2071_T495_COTS-1104607.pdf?src-supplier=Mouser; ComponentLink3URL: http://www.farnell.com/datasheets/2015705.pdf?src-supplier=Farnell; ComponentLink3Description: http://www.farnell.com/datasheets/2015705.pdf?src-supplier=Farnell; ComponentLink4URL: http://www.farnell.com/datasheets/2015705.pdf?src-supplier=Element14; ComponentLink4Description: http://www.farnell.com/datasheets/2015705.pdf?src-supplier=Element14; ComponentLink5URL: https://api.kemet.com/component-edge/download/datasheet/T495D107K010ASE100.pdf?src-supplier=Digi-Key; ComponentLink5Description: https://api.kemet.com/component-edge/download/datasheet/T495D107K010ASE100.pdf?src-supplier=Digi-Key; ComponentLink6URL: http://www.kemet.com/Lists/ProductCatalog/Attachments/261/KEM_T2009_T495.pdf?src-supplier=Avnet; ComponentLink6Description: http://www.kemet.com/Lists/ProductCatalog/Attachments/261/KEM_T2009_T495.pdf?src-supplier=Avnet; ComponentLink7URL: http://www.kemet.com/kemet/web/homepage/kechome.nsf/weben/1AABD97F96BDDBDA8525795A0050FFCA/$file/KEM_T2009_T495.pdf?src-supplier=Avnet; ComponentLink7Description: http://www.kemet.com/kemet/web/homepage/kechome.nsf/weben/1AABD97F96BDDBDA8525795A0050FFCA/$file/KEM_T2009_T495.pdf?src-supplier=Avnet; ComponentLink8URL: http://www.farnell.com/datasheets/2319914.pdf?src-supplier=Newark; ComponentLink8Description: http://www.farnell.com/datasheets/2319914.pdf?src-supplier=Newark; ComponentLink9URL: http://components.arrow.com/part/dataview/44988739S8665845N7429?src-supplier=Arrow+Electronics; ComponentLink9Description: http://components.arrow.com/part/dataview/44988739S8665845N7429?src-supplier=Arrow+Electronics; Supplier Part Number 1: 77Y7860
footprint CAP_4TAE470ML
pins: 1, 2

## TE_5-1814832-1
designator J?
footprint TE_5-1814832-1
pins: 1, 2, 3, 4, 5

## Test Pad
designator TP?, comment TP  (value not drawn)
footprint TP_SMD
pins: 1

## TP4057-42-SOT26-R
designator IC?
Integrated Circuit; Manufacturer_Name: Nanjing Extension Microelectronics; Datasheet Link: https://datasheet.lcsc.com/szlcsc/Nanjing-Extension-Microelectronics-TP4057_C12044.pdf; Height: 1.25mm; Manufacturer_Part_Number: TP4057-42-SOT26-R
footprint SOT95P280X125-6N
pins: 1 CHRG, 2 GND, 3 BAT, 4 VCC, 5 STDBY, 6 PROG

## TPS2500DRCT
designator IC?  (value not drawn)
Integrated Circuit; Manufacturer_Name: Texas Instruments; Manufacturer_Part_Number: TPS2500DRCT; Datasheet Link: http://www.ti.com/lit/gpn/TPS2500; Mouser Part Number: 595-TPS2500DRCT; Mouser Price/Stock: https://www.mouser.co.uk/ProductDetail/Texas-Instruments/TPS2500DRCT?qs=IK5e5L0zOXg4%252Be3iAH4kIA%3D%3D; Arrow Part Number: TPS2500DRCT; Arrow Price/Stock: https://www.arrow.com/en/products/tps2500drct/texas-instruments
footprint SON50P300X300X100-11N
pins: 1 SW, 2 PGND, 3 IN, 4 EN, 5 GND, 6 ILIM, 7 ENUSB, 8 ~FAULT, 9 USB, 10 AUX, 11 EPAD

## TPS54331DDAR
designator U?
3.5V to 28V Input, 3A, 570kHz Step-Down Converter with Eco-mode 8-SO PowerPAD -40 to 150; MP: TPS54331DDAR; MF: Texas Instruments; Value: *; Package: HSOIC-8 Texas Instruments; SnapEDA_Link: https://www.snapeda.com/parts/TPS54331DDAR/Texas%20Instruments/view-part/542324/?ref=snap; Purchase-URL: https://pricing.snapeda.com/search/part/TPS54331DDAR/?ref=eda; Digi-Key_Part_Number: 296-39419-1-ND
footprint CONV_TPS54331DDAR
pins: 1 BOOT (out), 2 VIN (power), 3 EN (in), 4 SS (in), 5 VSENSE (in), 6 COMP (out), 7 GND (power), 8 PH (out), 9 POWERPAD (power)

## TPS54560DDAR
designator U?
4.5V to 60 V input, 5 A step-down converter with Eco-Mode 8-SO PowerPAD -40 to 125; MF: Texas Instruments; MP: TPS54560DDAR; Purchase-URL: https://pricing.snapeda.com/search/part/TPS54560DDAR/?ref=eda; Value: *; SnapEDA_Link: https://www.snapeda.com/parts/TPS54560DDAR/Texas%20Instruments/view-part/231249/?ref=snap; Package: HSOIC-8 Texas Instruments; Availability: Warning; Price: None
footprint CONV_TPS54560DDAR
pins: 1 BOOT (out), 2 VIN (power), 3 EN (in), 4 RT/CLK (in), 5 FB (in), 6 COMP (out), 7 GND (power), 8 SW (in), 9 TH (power)

## TPS61023DRLR
designator IC?
Integrated Circuit; Manufacturer_Name: Texas Instruments; Datasheet Link: http://www.ti.com/lit/ds/symlink/tps61023.pdf; Height: 0.6mm; Manufacturer_Part_Number: TPS61023DRLR; Mouser Part Number: 595-TPS61023DRLR; Mouser Price/Stock: https://www.mouser.co.uk/ProductDetail/Texas-Instruments/TPS61023DRLR?qs=BJlw7L4Cy7%2FfEnwYuWeGOg%3D%3D; Arrow Part Number: TPS61023DRLR; Arrow Price/Stock: https://www.arrow.com/en/products/tps61023drlr/texas-instruments
footprint SOTFL50P160X60-6N
pins: 1 FB, 2 EN, 3 VIN, 4 GND, 5 SW, 6 VOUT

## USB-A-S-F-W-VU
designator J?, comment CON,USB-A,RAV,AMP1734775
footprint SAMTEC_USB-A-S-X-X-VU
pins: 1 Vcc (power), 2 DN (io), 3 DP (io), 4 Gnd (power), 5 Shield (power), 6 Shield (power), 7 Shield (power), 8 Shield (power)

## USBLC6-2SC6Y
designator U?  (value not drawn)
footprint SOT-23-6
pins: 1 I/O1, 2 GND, 3 I/O2, 4 I/O2, 5 Vbus, 6 I/O1

## UWX1C101MCL1GB
designator C, comment Cap
100ÂµF 16V Aluminum Electrolytic Capacitors Radial, Can - SMD 2000 Hrs @ 85Â°C; MF: Nichicon; MP: UWX1C101MCL1GB; Value: *; Availability: Unavailable; Price: None; Package: Radial Nichicon; SnapEDA_Link: https://www.snapeda.com/parts/UWX1C101MCL1GB/Nichicon/view-part/624199/?ref=snap
footprint PCAP_6.3X5.4-ELECT
pins: 1, 2

## VUSB3-A-S-G-TB-FRA
designator U?, comment USB3.0 TypeA_CONN  (value not drawn)
footprint VALCON_VUSB3-A-S-G-TB-FRA
pins: 1 VBUS, 2 D-, 3 D+, 4 GND, 5 StdA_SSRX-, 6 StdA_SSRX+, 7 GND_DRAIN, 8 StdA_SSTX-, 9 StdA_SSTX+, 10 Shield, 11 Shield, 12 Shield, 13 Shield

## W_LOGO
designator *  Page Number: 1  Page Count: 8  Page Modify Date: 23/03/2022  Doc: WALTON_ROUTER  RevCode: 1.0  Title: TITTLE  (hidden comment: *)  (graphical)
footprint W_LOGO
text: Page name; Size; Project name; Rev; Date:; Sheet; of; PROPERTY NOTE:This document contains confidential and property to WDTIL and shall not be reproduced or tranferred to oher documents or disclosed to others or used for any purpose other than that for which it was obtained without the expressed written consent of WDTIL.

## XEL4030-102MEB
designator L?
footprint IND_3.4x2.37
pins: 1, 2

## XTAL_3.2x2.5
designator U?, comment 12MHz
footprint XTAL_3.2x2.5
pins: 1 X1 (in), 2 NC, 3 X2 (in), 4 NC
text: 2.5x3.2